# EAGLE library part UA9637A (library _mtvl_ic)
DUAL DIFFERENTIAL LINE RECEIVER
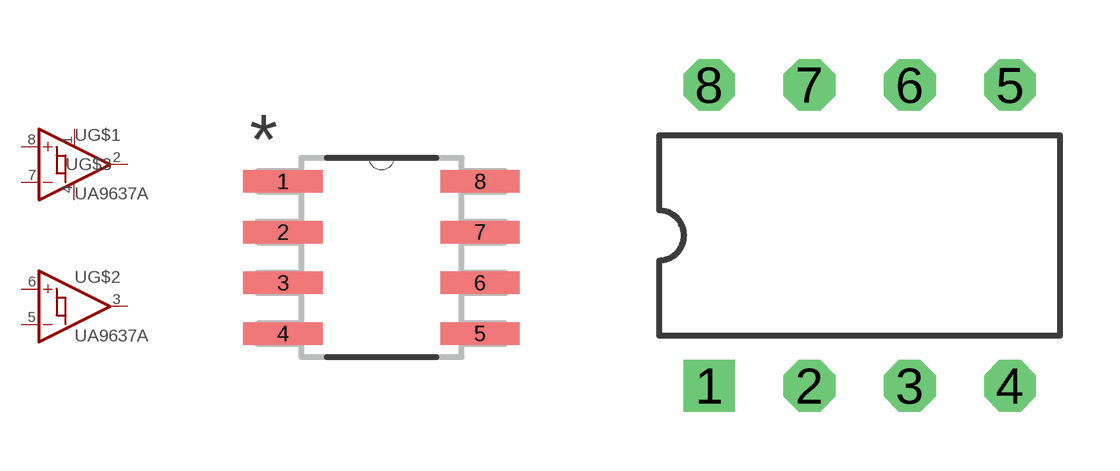
[diagram p25: symbol with the pads of SOIC127P600X175-8N; footprints SOIC127P600X175-8N, DIL08_]

Designator prefix U; gates G$1=LINE_RECEIVER G$2=LINE_RECEIVER G$3=PWR+G

## UA9637ACD (MPN: UA9637A; SUPPLIER: Texas Instruments)  [SOIC127P600X175-8N]
1  G$3:V+  pwr
2  G$1:OUT  out
3  G$2:OUT  out
4  G$3:GND  pwr
5  G$2:-IN  in
6  G$2:+IN  in
7  G$1:-IN  in
8  G$1:+IN  in

## UA9637ACP  [DIL08_]
Pads as for SOIC127P600X175-8N

## Footprint SOIC127P600X175-8N (pad centres in mm)
smd 1.981 x 0.559: 1 -2.464,1.905; 2 -2.464,0.635; 3 -2.464,-0.635; 4 -2.464,-1.905; 5 2.464,-1.905; 6 2.464,-0.635; 7 2.464,0.635; 8 2.464,1.905

## Footprint DIL08_ (pad centres in mm)
Dual In Line package type P
drill 0.8 square: 1 -3.81,-3.81
drill 0.8 octagon: 2 -1.27,-3.81; 3 1.27,-3.81; 4 3.81,-3.81; 5 3.81,3.81; 6 1.27,3.81; 7 -1.27,3.81; 8 -3.81,3.81